# Altium schematic symbol library TitleBox.SchLib: 1 symbol
Pins are listed as number, name and electrical type; pins without a type are passive.

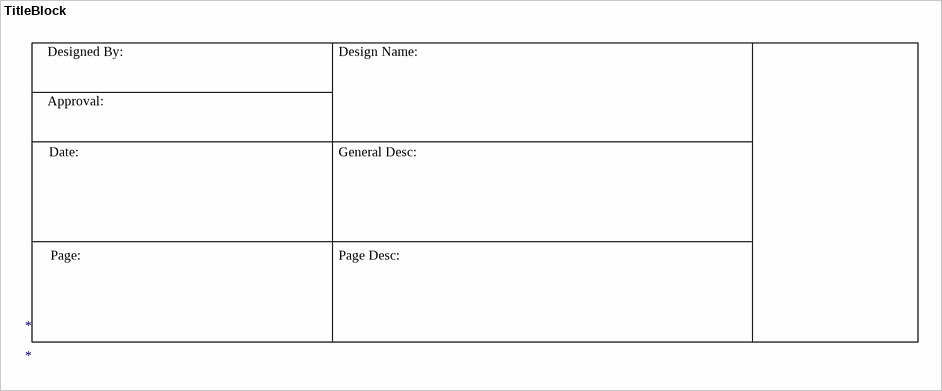
[diagram p0: symbol TitleBlock]

## TitleBlock
designator *
text: Designed By:; Design Name:; Approval:; Date:; General Desc:; Page:; Page Desc: